# EAGLE library part KX134-BREAKOUT (library KX134_Breakout)
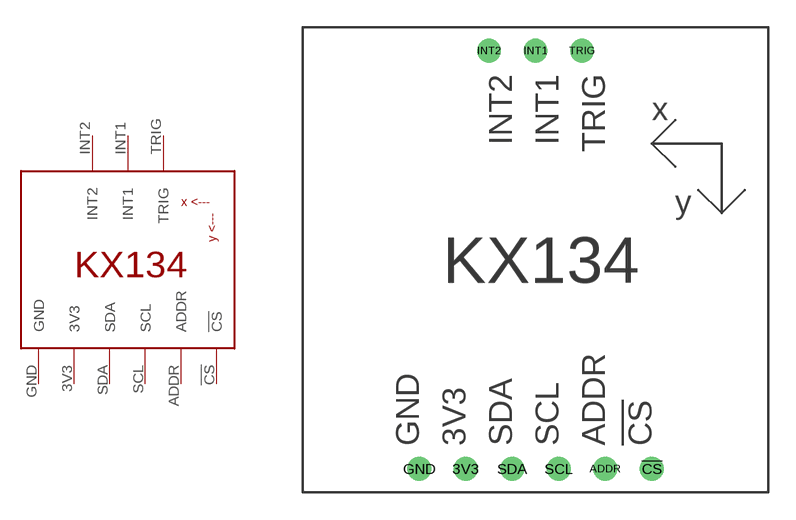
[diagram p0: symbol with the pads of KX134-BREAKOUT; footprint KX134-BREAKOUT]

Designator prefix -

## KX134-BREAKOUT  [KX134-BREAKOUT]
3V3  3V3
!CS  !CS
ADDR  ADDR
GND  GND
INT1  INT1
INT2  INT2
SCL  SCL
SDA  SDA
TRIG  TRIG

## Footprint KX134-BREAKOUT (pad centres in mm)
drill 0.8: 3V3 8.89,1.27; !CS 19.05,1.27; ADDR 16.51,1.27; GND 6.35,1.27; INT1 12.7,24.13; INT2 10.16,24.13; SCL 13.97,1.27; SDA 11.43,1.27; TRIG 15.24,24.13